# Altium schematic symbol library STM32H735VGH3.SchLib: 1 symbol
Pins are listed as number, name and electrical type; pins without a type are passive.

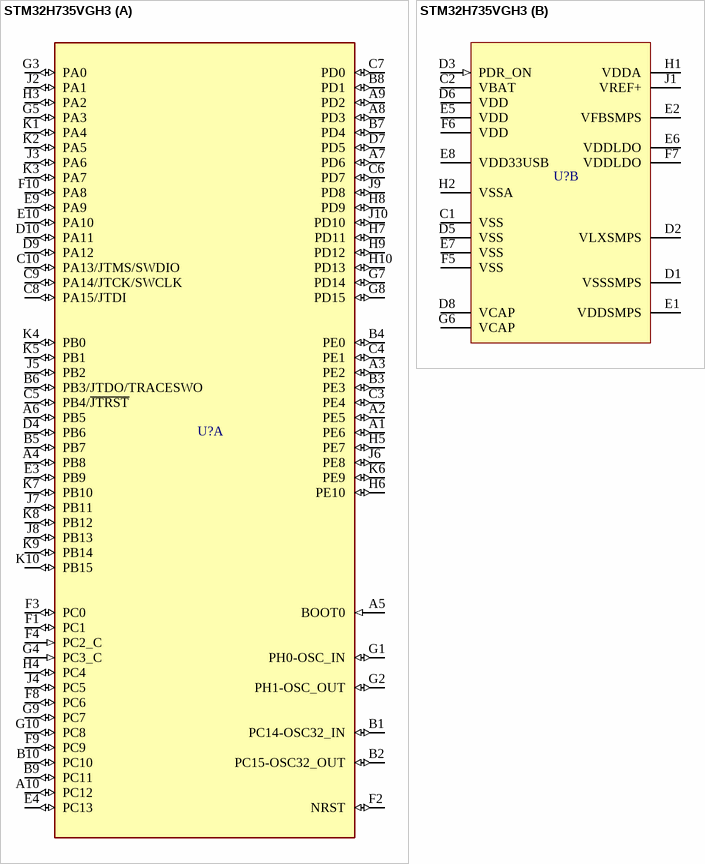
[diagram p0: symbol STM32H735VGH3]

## STM32H735VGH3
designator U?
ARM Cortex-M7 STM32H735VGH3 _100-TFBGA (8x8)
part A pins: A1 PE6 (io), A2 PE5 (io), A3 PE2 (io), A4 PB8 (io), A5 BOOT0 (in), A6 PB5 (io), A7 PD6 (io), A8 PD3 (io), A9 PD2 (io), A10 PC12 (io), B1 PC14-OSC32_IN (io), B2 PC15-OSC32_OUT (io), B3 PE3 (io), B4 PE0 (io), B5 PB7 (io), B6 PB3/JTDO/TRACESWO (io), B7 PD4 (io), B8 PD1 (io), B9 PC11 (io), B10 PC10 (io), C3 PE4 (io), C4 PE1 (io), C5 PB4/~{JTRST} (io), C6 PD7 (io), C7 PD0 (io), C8 PA15/JTDI (io), C9 PA14/JTCK/SWCLK (io), C10 PA13/JTMS/SWDIO (io), D4 PB6 (io), D7 PD5 (io), D9 PA12 (io), D10 PA11 (io), E3 PB9 (io), E4 PC13 (io), E9 PA9 (io), E10 PA10 (io), F1 PC1 (io), F2 NRST (io), F3 PC0 (io), F4 PC2_C (in), F8 PC6 (io), F9 PC9 (io), F10 PA8 (io), G1 PH0-OSC_IN (io), G2 PH1-OSC_OUT (io), G3 PA0 (io), G4 PC3_C (in), G5 PA3 (io), G7 PD14 (io), G8 PD15 (io), G9 PC7 (io), G10 PC8 (io), H3 PA2 (io), H4 PC4 (io), H5 PE7 (io), H6 PE10 (io), H7 PD11 (io), H8 PD9 (io), H9 PD12 (io), H10 PD13 (io), J2 PA1 (io), J3 PA6 (io), J4 PC5 (io), J5 PB2 (io), J6 PE8 (io), J7 PB11 (io), J8 PB13 (io), J9 PD8 (io), J10 PD10 (io), K1 PA4 (io), K2 PA5 (io), K3 PA7 (io), K4 PB0 (io), K5 PB1 (io), K6 PE9 (io), K7 PB10 (io), K8 PB12 (io), K9 PB14 (io), K10 PB15 (io)
part B pins: C1 VSS (power), C2 VBAT (power), D1 VSSSMPS (power), D2 VLXSMPS (power), D3 PDR_ON (in), D5 VSS (power), D6 VDD (power), D8 VCAP (power), E1 VDDSMPS (power), E2 VFBSMPS (power), E5 VDD (power), E6 VDDLDO (power), E7 VSS (power), E8 VDD33USB (power), F5 VSS (power), F6 VDD (power), F7 VDDLDO (power), G6 VCAP (power), H1 VDDA (power), H2 VSSA (power), J1 VREF+ (power)